# Altium footprint library PCB_MDL_SEC_CAPACITOR.PcbLib: 1 footprints
Each footprint in its own frame and in the unit in brackets; x right, y up, seen from the top. Pads: shape width x height; smd on the part's side, far side on the other; paste and mask are expansions set on the pad; w line width, h text height; cw(c..) or ccw(c..) is an arc to the next point about the centre after c.
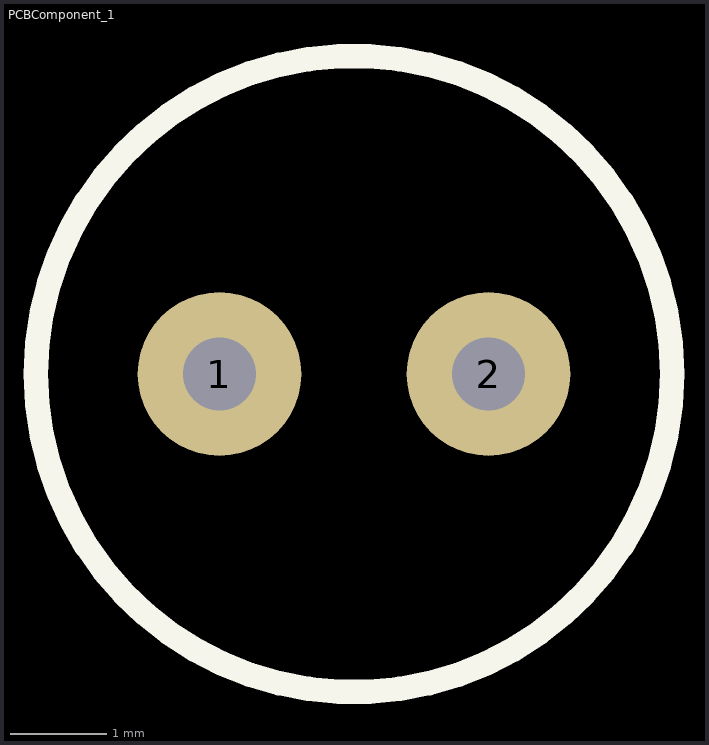
[diagram p0: the footprint, top view; thin cyan lines are the x and y axes]

## PCBComponent_1 [mm]
pads (2):
  round 1.7 hole 0.762: 1(-1265.047,-1264.92) 2(-1262.253,-1264.92)
Top Overlay:
  circle w0.254: c-1263.65,-1264.92 r3.304